# Altium footprint library 472192001.PcbLib: 1 footprints
Each footprint in its own frame and in the unit in brackets; x right, y up, seen from the top. Pads: shape width x height; smd on the part's side, far side on the other; paste and mask are expansions set on the pad; w line width, h text height; cw(c..) or ccw(c..) is an arc to the next point about the centre after c.
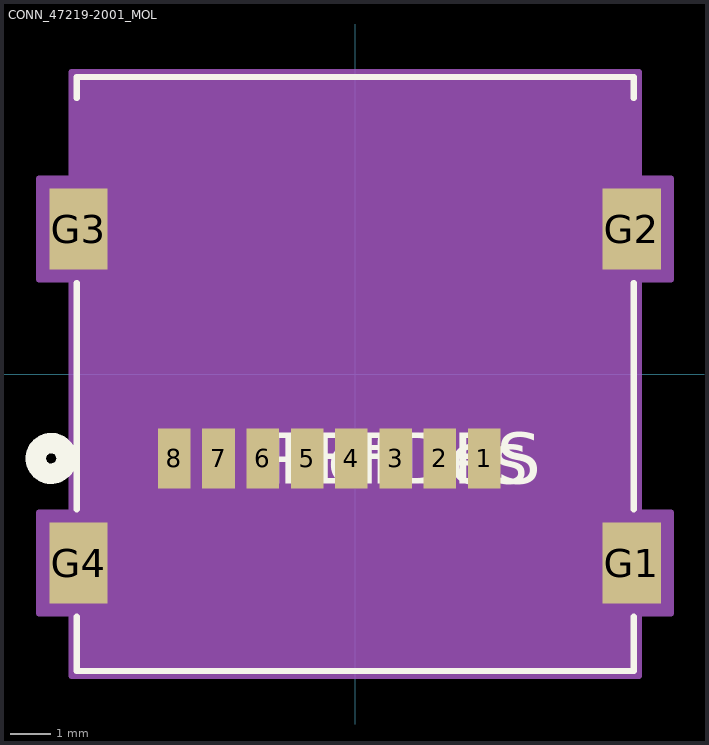
[diagram p0: the footprint, top view; thin cyan lines are the x and y axes]

## CONN_47219-2001_MOL [mil]
pads (12):
  rect 32x59 smd paste+0 mask+0: 1(126.18,-82.61) 2(82.87,-82.61) 3(39.57,-82.61) 4(-3.74,-82.61) 5(-47.05,-82.61) 6(-90.35,-82.61) 7(-133.66,-82.61) 8(-176.97,-82.61)
  rect 57x79 smd paste-39.5 mask-39.5: G1(270.67,-184.97) G2(270.67,141.8) G3(-270.67,141.8) G4(-270.67,-184.97)
Top Overlay:
  circle w20: c-297.5,-82.61 r15
  lines w6: -272.5,-237.57 -272.5,-290.5 272.5,-290.5 272.5,-237.57 ; -272.5,-132.37 -272.5,89.2 ; -272.5,269.99 -272.5,290.5 272.5,290.5 272.5,269.99 ; 272.5,-132.37 272.5,89.2
  text "RefDes" at -75,-107.61 h50
  text "REFDES" at -87.5,-107.61 h50
Bottom Overlay:
  circle w20: c-297.5,-82.61 r15
Mechanical 13:
  circle w20: c-151.57,-7.61 r15
  lines w1: -267.5,-285.5 267.5,-285.5 267.5,285.5 -267.5,285.5 -267.5,-285.5
  text "RefDes2" at -87.5,-107.61 h50
Mechanical 15:
  region: -277.5,-135.47 -309.17,-135.47 -309.17,-234.47 -277.5,-234.47 -277.5,-295.5 277.5,-295.5 277.5,-234.47 309.17,-234.47 309.17,-135.47 277.5,-135.47 277.5,92.3 309.17,92.3 309.17,191.3 277.5,191.3 277.5,295.5 -277.5,295.5 -277.5,191.3 -309.17,191.3 -309.17,92.3 -277.5,92.3
  lines w6: -309.17,-234.47 -309.17,-135.47 -277.5,-135.47 -277.5,92.3 -309.17,92.3 -309.17,191.3 -277.5,191.3 -277.5,295.5 277.5,295.5 277.5,191.3 309.17,191.3 309.17,92.3 277.5,92.3 277.5,-135.47 309.17,-135.47 309.17,-234.47 277.5,-234.47 277.5,-295.5 -277.5,-295.5 -277.5,-234.47 -309.17,-234.47